# Altium footprint library bt_diode.PCBLIB: 25 footprints (part 1 of 2)
Each footprint in its own frame and in the unit in brackets; x right, y up, seen from the top. Pads: shape width x height; smd on the part's side, far side on the other; paste and mask are expansions set on the pad; w line width, h text height; cw(c..) or ccw(c..) is an arc to the next point about the centre after c.
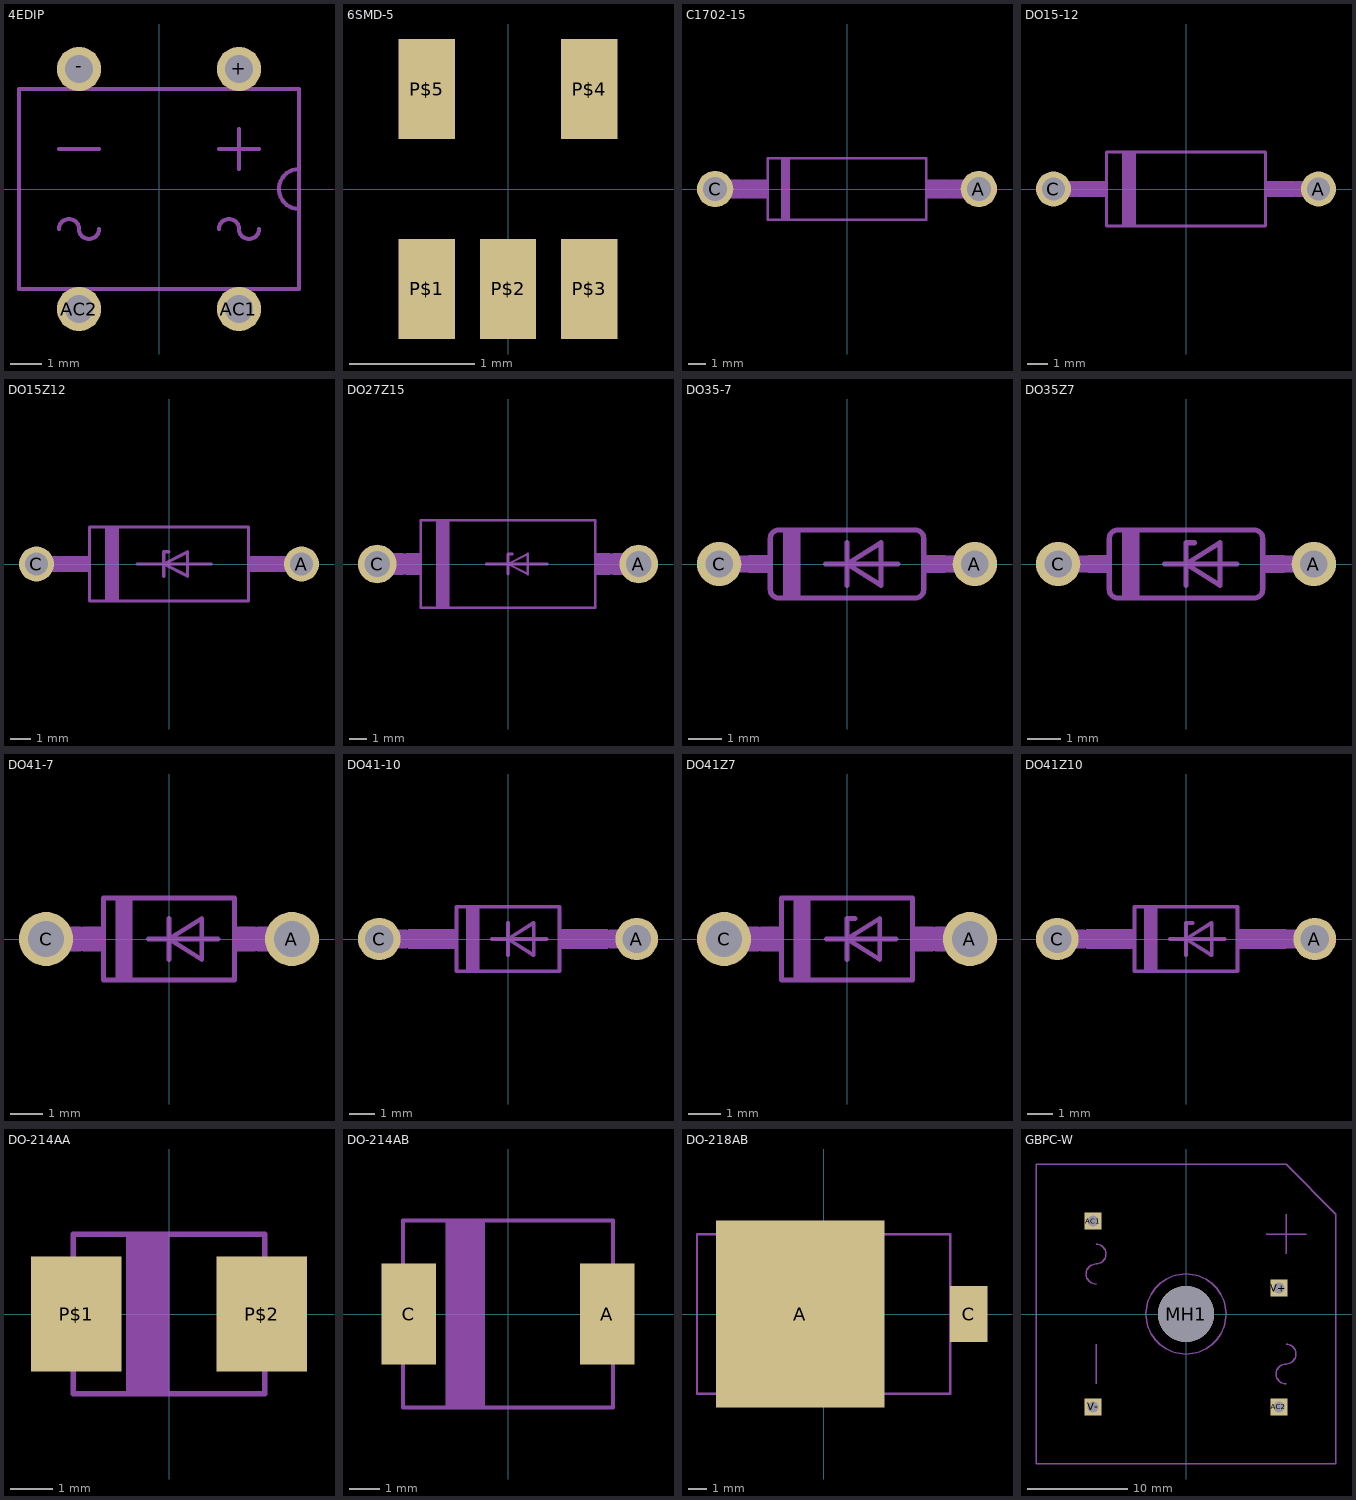
[diagram p0: the footprints below, top view; thin cyan lines are the x and y axes]

## 4EDIP [mil]
pads (4):
  round 55.43 hole 35.43: +(100,150) -(-100,150) AC1(100,-150) AC2(-100,-150)
tPlace:
  lines w5: -125,-50 cw(c-112.5,-50) -100,-50 ccw(c-87.5,-50) -75,-50 ; -125,50 -75,50 ; 75,-50 cw(c87.5,-50) 100,-50 ccw(c112.5,-50) 125,-50 ; 75,50 125,50 ; 100,25 100,75 ; 175,-25 175,25 ; 175,-25 175,-125 -175,-125 -175,125 175,125 175,25 ; 175,-25 cw(c175,0) 175,25

## 6SMD-5 [mil]
pads (5):
  rect 17.72x31.5 smd: P$1(-25.59,-31.5) P$2(0,-31.5) P$3(25.59,-31.5) P$4(25.59,31.5) P$5(-25.59,31.5)

## C1702-15 [mil]
pads (2):
  round 82.5 hole 55: A(300,0) C(-300,0)
tDocu:
  lines w44: -300,0 -240,0 ; 240,0 300,0
tPlace:
  region: -150,-70 -150,70 -130,70 -130,-70
  region: 180,-21 180,21 234,21 234,-21
  region: -234,-21 -234,21 -180,21 -180,-21
  lines w6: -180,-70 -180,70 180,70 180,-70 -180,-70

## DO15-12 [mil]
pads (2):
  round 66 hole 44: A(250,0) C(-250,0)
tDocu:
  lines w30: -250,0 -210,0 ; 210,0 250,0
tPlace:
  region: -120,-70 -120,70 -95,70 -95,-70
  region: -205,-15 -205,15 -150,15 -150,-15
  region: 150,-15 150,15 205,15 205,-15
  lines w6: -150,-70 150,-70 150,70 -150,70 -150,-70

## DO15Z12 [mil]
pads (2):
  round 66 hole 44: A(250,0) C(-250,0)
tDocu:
  lines w30: -250,0 -210,0 ; 210,0 250,0
tPlace:
  region: -120,-70 -120,70 -95,70 -95,-70
  region: -205,-15 -205,15 -150,15 -150,-15
  region: 150,-15 150,15 205,15 205,-15
  lines w6: -60,0 -10,0 ; -10,-23 -10,0 ; 0,23 -10,23 -10,0 ; 80,0 -10,0 ; -10,0 35,23 35,-23 -10,0 ; -150,-70 150,-70 150,70 -150,70 -150,-70

## DO27Z15 [mil]
pads (2):
  round 88.5 hole 59: A(300,0) C(-300,0)
tDocu:
  lines w50: -300,0 -245,0 ; 245,0 300,0
tPlace:
  region: -165,-100 -165,100 -135,100 -135,-100
  region: -235,-25 -235,25 -200,25 -200,-25
  region: 200,-25 200,25 235,25 235,-25
  lines w6: -50,0 0,0 ; 0,-23 0,0 ; 10,23 0,23 0,0 ; 90,0 0,0 ; 0,0 45,23 45,-23 0,0 ; -200,-100 -200,100 200,100 200,-100 -200,-100

## DO35-7 [mil]
pads (2):
  round 52 hole 32: A(150,0) C(-150,0)
tDocu:
  lines w20: -150,0 -115,0 ; 115,0 150,0
tPlace:
  region: -75,-40 -75,40 -55,40 -55,-40
  region: 90,-10 90,10 115,10 115,-10
  region: -115,-10 -115,10 -90,10 -90,-10
  lines w6: -25,0 0,0 ; 0,-25 0,0 ; 0,25 0,0 ; 60,0 0,0 ; 0,0 40,-25 40,25 0,0 ; -90,-30 ccw(c-80,-30) -80,-40 80,-40 ccw(c80,-30) 90,-30 90,30 ccw(c80,30) 80,40 -80,40 ccw(c-80,30) -90,30 -90,-30

## DO35Z7 [mil]
pads (2):
  round 52 hole 32: A(150,0) C(-150,0)
tDocu:
  lines w20: -150,0 -115,0 ; 115,0 150,0
tPlace:
  region: -75,-40 -75,40 -55,40 -55,-40
  region: 90,-10 90,10 115,10 115,-10
  region: -115,-10 -115,10 -90,10 -90,-10
  lines w6: -25,0 0,0 ; 0,-25 0,0 ; 10,25 0,25 0,0 ; 60,0 0,0 ; 0,0 40,-25 40,25 0,0 ; -90,-30 ccw(c-80,-30) -80,-40 80,-40 ccw(c80,-30) 90,-30 90,30 ccw(c80,30) 80,40 -80,40 ccw(c-80,30) -90,30 -90,-30

## DO41-7 [mil]
pads (2):
  round 66 hole 44: A(150,0) C(-150,0)
tDocu:
  lines w30: -150,0 -110,0 ; 110,0 150,0
tPlace:
  region: -65,-50 -65,50 -45,50 -45,-50
  region: 80,-15 80,15 105,15 105,-15
  region: -105,-15 -105,15 -80,15 -80,-15
  lines w6: -25,0 0,0 ; 0,-25 0,0 ; 0,25 0,0 ; 60,0 0,0 ; 0,0 40,-25 40,25 0,0 ; -80,-50 80,-50 80,50 -80,50 -80,-50

## DO41-10 [mil]
pads (2):
  round 66 hole 44: A(200,0) C(-200,0)
tDocu:
  lines w30: -200,0 -160,0 ; 160,0 200,0
tPlace:
  region: -65,-50 -65,50 -45,50 -45,-50
  region: 80,-15 80,15 155,15 155,-15
  region: -155,-15 -155,15 -80,15 -80,-15
  lines w6: -25,0 0,0 ; 0,-25 0,0 ; 0,25 0,0 ; 60,0 0,0 ; 0,0 40,-25 40,25 0,0 ; -80,-50 80,-50 80,50 -80,50 -80,-50

## DO41Z7 [mil]
pads (2):
  round 66 hole 44: A(150,0) C(-150,0)
tDocu:
  lines w30: -150,0 -110,0 ; 110,0 150,0
tPlace:
  region: -65,-50 -65,50 -45,50 -45,-50
  region: 80,-15 80,15 105,15 105,-15
  region: -105,-15 -105,15 -80,15 -80,-15
  lines w6: -25,0 0,0 ; 0,-25 0,0 ; 10,25 0,25 0,0 ; 60,0 0,0 ; 0,0 40,-25 40,25 0,0 ; -80,-50 80,-50 80,50 -80,50 -80,-50

## DO41Z10 [mil]
pads (2):
  round 66 hole 44: A(200,0) C(-200,0)
tDocu:
  lines w30: -200,0 -160,0 ; 155,0 200,0
tPlace:
  region: -65,-50 -65,50 -45,50 -45,-50
  region: 80,-15 80,15 155,15 155,-15
  region: -155,-15 -155,15 -80,15 -80,-15
  lines w6: -25,0 0,0 ; 0,-25 0,0 ; 10,25 0,25 0,0 ; 60,0 0,0 ; 0,0 40,-25 40,25 0,0 ; -80,-50 80,-50 80,50 -80,50 -80,-50

## DO-214AA [mil]
pads (2):
  rect 85x108 smd: P$1(-87,0) P$2(87,0)
tDocu:
  lines w5: -90,-75 -90,75 ; 90,-75 90,75
tPlace:
  region: -40,-75 -40,75 0,75 0,-75
  lines w5: -90,-75 90,-75 ; -90,75 90,75

## DO-214AB [mil]
pads (2):
  rect 70x130 smd: A(127.5,0) C(-127.5,0)
tDocu:
  lines w5: -135,-70 -135,70 ; 135,-70 135,70
tPlace:
  region: -80,-120 -80,120 -30,120 -30,-120
  lines w5: -135,-70 -135,-120 135,-120 135,-70 ; -135,70 -135,120 135,120 135,70

## DO-218AB [mm]
pads (2):
  rect 9x10 smd: A(-1.25,0)
  rect 2x3 smd: C(7.75,0)
tDocu:
  lines w0.127: -6,-4.25 3.5,-4.25 ; -6,4.25 3.5,4.25
tPlace:
  lines w0.127: -6,-4.25 -6.75,-4.25 -6.75,4.25 -6,4.25 ; 3.5,-4.25 6.75,-4.25 6.75,4.25 3.5,4.25

## GBPC-W [mil]
pads (5):
  rect 64.97x64.97 / inner round 60.02 / far side rect 64.97x64.97 hole 43.31: AC1(-366.14,366.14) AC2(366.14,-366.14) V+(366.14,102.36) V-(-366.14,-366.14)
  round 220.47 hole 220.47 unplated: MH1(0,0)
tPlace:
  circle w5: c0,0 r157.48
  lines w5: -354.33,-275.59 -354.33,-118.11 ; -354.33,118.11 cw(c-354.33,157.48) -354.33,196.85 ccw(c-354.33,236.22) -354.33,275.59 ; 314.96,314.96 472.44,314.96 ; 393.7,-275.59 cw(c393.7,-236.22) 393.7,-196.85 ccw(c393.7,-157.48) 393.7,-118.11 ; 393.7,236.22 393.7,393.7 ; -590.55,-590.55 -590.55,590.55 393.7,590.55 590.55,393.7 590.55,-590.55 -590.55,-590.55